# Altium schematic symbol library Cap0805.SchLib: 2 symbols
Pins are listed as number, name and electrical type; pins without a type are passive.

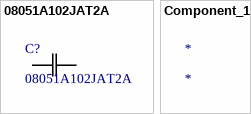
[diagram p0: symbols 08051A102JAT2A to Component_1]

## 08051A102JAT2A
designator C?
No Description Available; Built_By: EMA_UL_Team; Vendor: AVX Corporation; SourceLibrary: AVX_2016-12-14_2; Type: DEV; Manufacturer_Part_Number: 08051A102JAT2A; Copyright: Copyright (C) 2018 Accelerated Designs. All rights reserved; RefDes: RefDes
footprint CAP_0805J_AVX
pins: 1, 2

## Component_1
designator *